# Altium footprint library QFN100P500X500X220-16N_CVCO.PcbLib: 1 footprints
Each footprint in its own frame and in the unit in brackets; x right, y up, seen from the top. Pads: shape width x height; smd on the part's side, far side on the other; paste and mask are expansions set on the pad; w line width, h text height; cw(c..) or ccw(c..) is an arc to the next point about the centre after c.
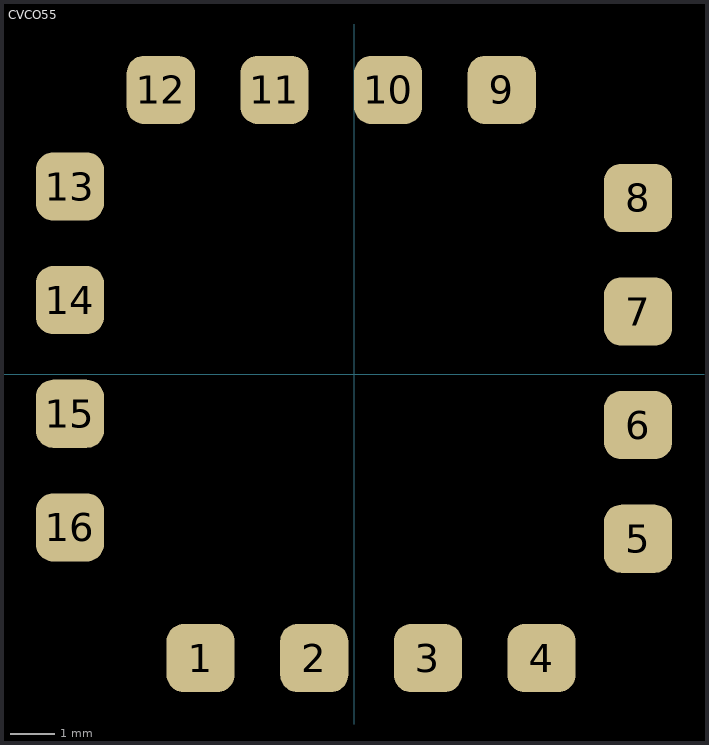
[diagram p0: the footprint, top view; thin cyan lines are the x and y axes]

## CVCO55 [mil]
pads (16):
  rrect50% 60x60 smd: 1(-135,-250) 2(-35,-250) 3(65,-250) 4(165,-250) 5(250,-145) 6(250,-45) 7(250,55) 8(250,155) 9(130,250) 10(30,250) 11(-70,250) 12(-170,250) 13(-250,165) 14(-250,65) 15(-250,-35) 16(-250,-135)